# EAGLE library part YWROBOT (library aobotelhoLibrary)
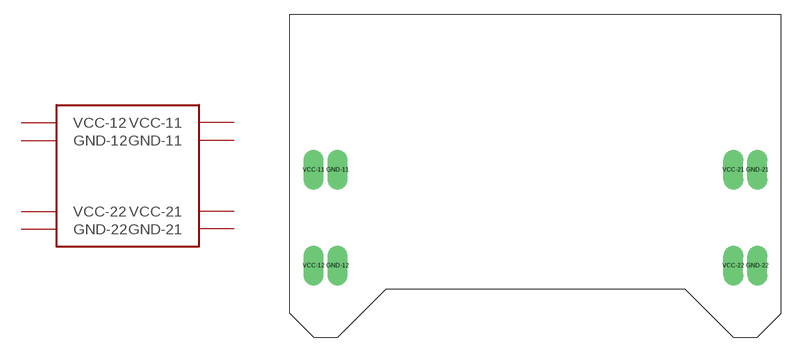
[diagram p8: symbol with the pads of YWROBOT; footprint YWROBOT]

Designator prefix -

## YWROBOT  [YWROBOT]
GND-11  GND-11
GND-12  GND-12
GND-21  GND-21
GND-22  GND-22
VCC-11  VCC-11
VCC-12  VCC-12
VCC-21  VCC-21
VCC-22  VCC-22

## Footprint YWROBOT (pad centres in mm)
drill 1.4 long: GND-11 -20.32,-1.27; GND-12 -20.32,-11.43; GND-21 24.13,-1.27; GND-22 24.13,-11.43; VCC-11 -22.86,-1.27; VCC-12 -22.86,-11.43; VCC-21 21.59,-1.27; VCC-22 21.59,-11.43